# Altium footprint library Testpad.PcbLib: 11 footprints
Each footprint in its own frame and in the unit in brackets; x right, y up, seen from the top. Pads: shape width x height; smd on the part's side, far side on the other; paste and mask are expansions set on the pad; w line width, h text height; cw(c..) or ccw(c..) is an arc to the next point about the centre after c.
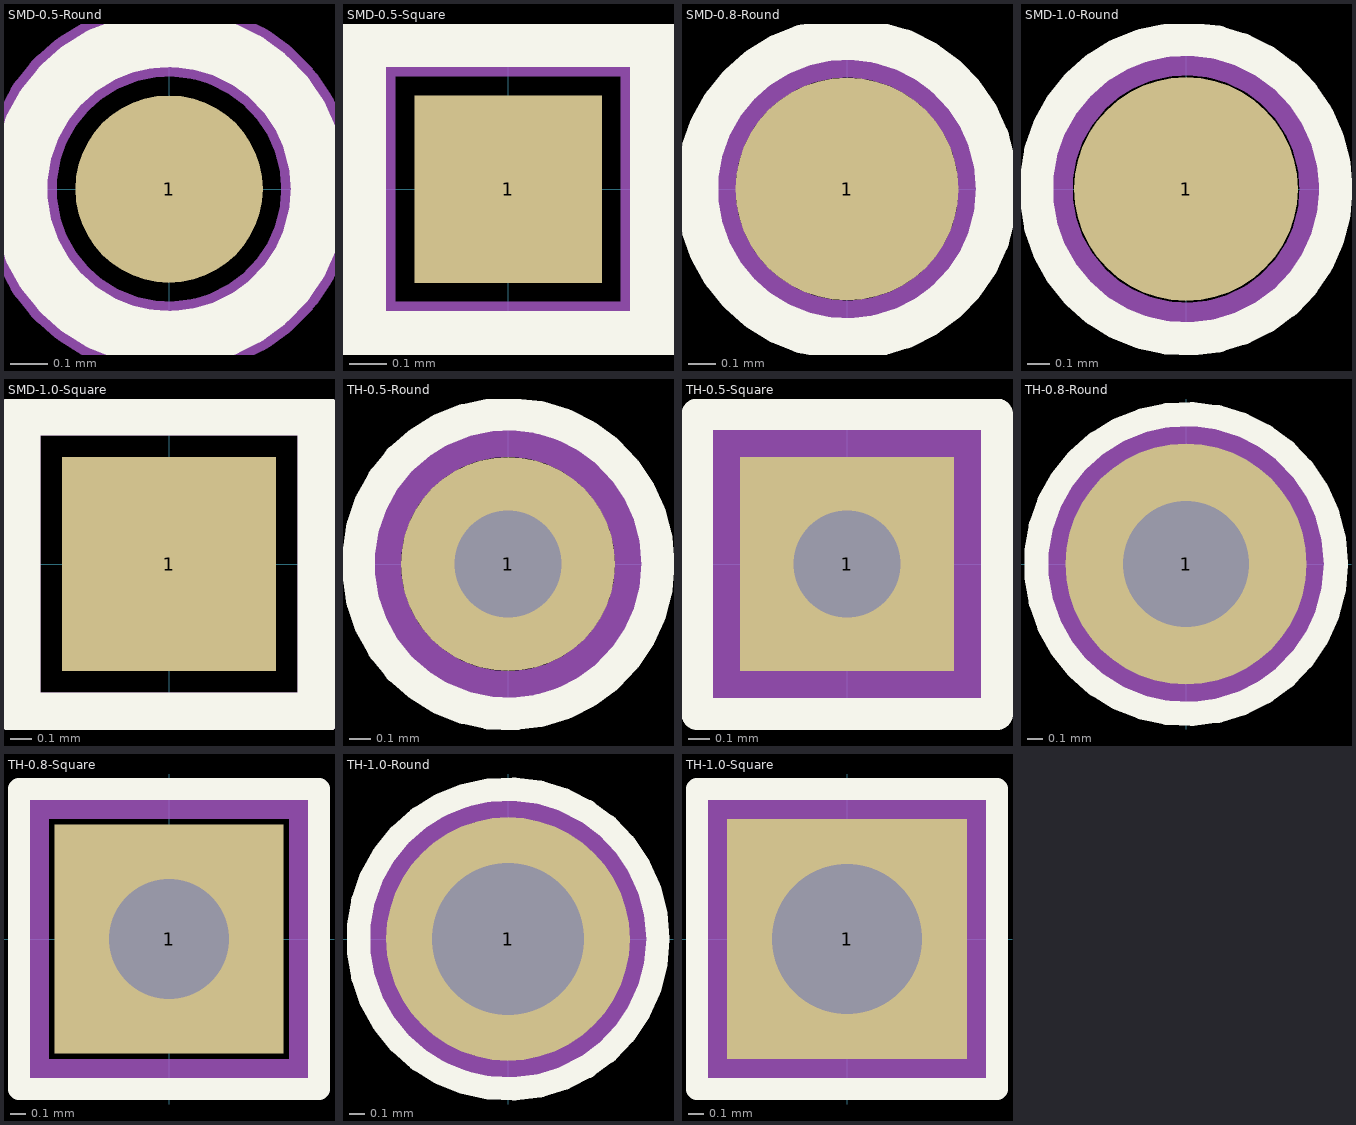
[diagram p0: the footprints below, top view; thin cyan lines are the x and y axes]

## SMD-0.5-Round [mm]
pads (1):
  round 0.5 smd paste-10: 1(0,0)
Top Overlay:
  circle w0.15: c0,0 r0.4
Top Assembly (Mech3):
  circle w0.2: c0,0 r0.4

## SMD-0.5-Square [mm]
pads (1):
  rect 0.5x0.5 smd paste-10: 1(0,0)
Top Overlay:
  lines w0.15: -0.4,-0.4 0.4,-0.4 0.4,0.4 -0.4,0.4 -0.4,-0.4
Top Assembly (Mech3):
  lines w0.2: -0.4,-0.4 -0.4,0.4 0.4,0.4 0.4,-0.4 -0.4,-0.4

## SMD-0.8-Round [mm]
pads (1):
  round 0.8 smd paste-10: 1(0,0)
Top Overlay:
  circle w0.15: c0,0 r0.539
Top Assembly (Mech3):
  circle w0.2: c0,0 r0.5

## SMD-1.0-Round [mm]
pads (1):
  round 1 smd paste-10: 1(0,0)
Top Overlay:
  circle w0.15: c0,0 r0.671
Top Assembly (Mech3):
  circle w0.2: c0,0 r0.608

## SMD-1.0-Square [mm]
pads (1):
  rect 1x1 smd paste-10: 1(0,0)
Top Overlay:
  lines w0.2: -0.7,-0.7 0.7,-0.7 0.7,0.7 -0.7,0.7 -0.7,-0.7
Top Assembly (Mech3):
  lines w0.2: -0.7,-0.7 0.7,-0.7 0.7,0.7 -0.7,0.7 -0.7,-0.7

## TH-0.5-Round [mm]
pads (1):
  round 1 hole 0.5: 1(0,0)
Top Overlay:
  circle w0.154: c0,0 r0.7
Bottom Overlay:
  circle w0.154: c0,0 r0.7
Top Assembly (Mech3):
  circle w0.2: c0,0 r0.6

## TH-0.5-Square [mm]
pads (1):
  rect 1x1 hole 0.5: 1(0,0)
Top Overlay:
  lines w0.15: -0.7,-0.7 0.7,-0.7 0.7,0.7 -0.7,0.7 -0.7,-0.7
Bottom Overlay:
  lines w0.15: -0.7,-0.7 0.7,-0.7 0.7,0.7 -0.7,0.7 -0.7,-0.7
Top Assembly (Mech3):
  lines w0.2: -0.6,-0.6 -0.6,0.6 0.6,0.6 0.6,-0.6 -0.6,-0.6

## TH-0.8-Round [mil]
pads (1):
  round 60 hole 31.5: 1(0,0)
Top Overlay:
  circle w6.06: c0,0 r37.35
Bottom Overlay:
  circle w6.06: c0,0 r37.35
Top Assembly (Mech3):
  circle w7.87: c0,0 r33.64

## TH-0.8-Square [mil]
pads (1):
  rect 60x60 hole 31.5: 1(0,0)
Top Overlay:
  lines w5.91: -39.37,-39.37 -39.37,39.37 39.37,39.37 39.37,-39.37 -39.37,-39.37
Bottom Overlay:
  lines w5.91: -39.37,-39.37 -39.37,39.37 39.37,39.37 39.37,-39.37 -39.37,-39.37
Top Assembly (Mech3):
  lines w7.87: -35.43,-35.43 -35.43,35.43 35.43,35.43 35.43,-35.43 -35.43,-35.43

## TH-1.0-Round [mm]
pads (1):
  round 1.6 hole 1: 1(0,0)
Top Overlay:
  circle w0.154: c0,0 r0.985
Bottom Overlay:
  circle w0.154: c0,0 r0.985
Top Assembly (Mech3):
  circle w0.2: c0,0 r0.894

## TH-1.0-Square [mm]
pads (1):
  rect 1.6x1.6 hole 1: 1(0,0)
Top Overlay:
  lines w0.15: -1,-1 1,-1 1,1 -1,1 -1,-1
Bottom Overlay:
  lines w0.15: -1,-1 1,-1 1,1 -1,1 -1,-1
Top Assembly (Mech3):
  lines w0.2: -0.9,-0.9 -0.9,0.9 0.9,0.9 0.9,-0.9 -0.9,-0.9